# Altium footprint library IC_Microchip_PIC24FJ128GB202-I-SO_eec_0.PcbLib: 1 footprints
Each footprint in its own frame and in the unit in brackets; x right, y up, seen from the top. Pads: shape width x height; smd on the part's side, far side on the other; paste and mask are expansions set on the pad; w line width, h text height; cw(c..) or ccw(c..) is an arc to the next point about the centre after c.
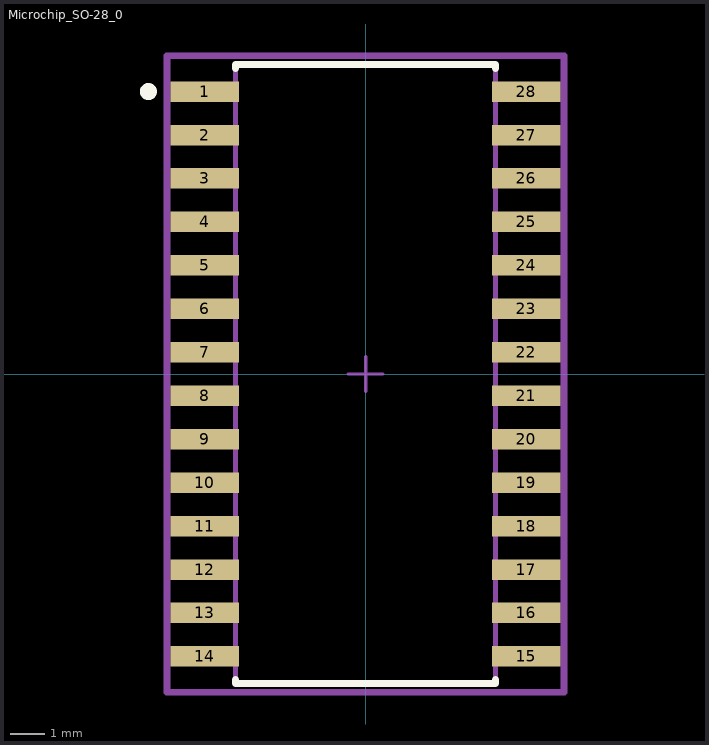
[diagram p0: the footprint, top view; thin cyan lines are the x and y axes]

## Microchip_SO-28_0 [mm]
pads (28):
  rect 2x0.6 smd paste+0 mask+0: 1(-4.7,8.255) 2(-4.7,6.985) 3(-4.7,5.715) 4(-4.7,4.445) 5(-4.7,3.175) 6(-4.7,1.905) 7(-4.7,0.635) 8(-4.7,-0.635) 9(-4.7,-1.905) 10(-4.7,-3.175) 11(-4.7,-4.445) 12(-4.7,-5.715) 13(-4.7,-6.985) 14(-4.7,-8.255) 15(4.7,-8.255) 16(4.7,-6.985) 17(4.7,-5.715) 18(4.7,-4.445) 19(4.7,-3.175) 20(4.7,-1.905) 21(4.7,-0.635) 22(4.7,0.635) 23(4.7,1.905) 24(4.7,3.175) 25(4.7,4.445) 26(4.7,5.715) 27(4.7,6.985) 28(4.7,8.255)
Top Overlay:
  circle w0.25: c-6.35,8.255 r0.125
  lines w0.2: -3.8,-8.93 -3.8,-9.05 3.8,-9.05 3.8,-8.93 ; -3.8,8.93 -3.8,9.05 3.8,9.05 3.8,8.93
Mechanical 10:
  lines w0.2: -5.8,-9.3 5.8,-9.3 5.8,9.3 -5.8,9.3 -5.8,-9.3
  text ".Designator" at 0,0 h1
Mechanical 12:
  lines w0.15: -3.8,-9.05 3.8,-9.05 3.8,9.05 -3.8,9.05 -3.8,-9.05
Mechanical 15:
  lines w0.1: -0.5,0 0.5,0 ; 0,-0.5 0,0.5
  lines w0.2: -5.8,-9.3 5.8,-9.3 5.8,9.3 -5.8,9.3 -5.8,-9.3
3D body "IC_Microchip_PIC24FJ128GB202-I-SO_eec.STEP": height 0.25, standoff 0, extent -5.8,-9.3 5.8,9.3